# Altium footprint library QSOP-16.PcbLib: 1 footprints
Each footprint in its own frame and in the unit in brackets; x right, y up, seen from the top. Pads: shape width x height; smd on the part's side, far side on the other; paste and mask are expansions set on the pad; w line width, h text height; cw(c..) or ccw(c..) is an arc to the next point about the centre after c.
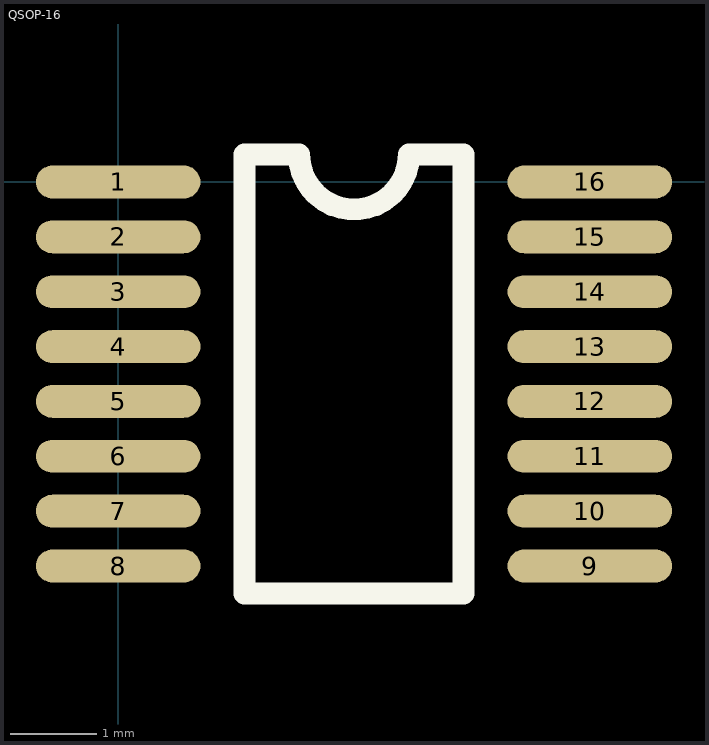
[diagram p0: the footprint, top view; thin cyan lines are the x and y axes]

## QSOP-16 [mil]
height 70
pads (16):
  oval 75x15 smd: 1(0,0) 2(0,-25) 3(0,-50) 4(0,-75) 5(0,-100) 6(0,-125) 7(0,-150) 8(0,-175) 9(215,-175) 10(215,-150) 11(215,-125) 12(215,-100) 13(215,-75) 14(215,-50) 15(215,-25) 16(215,0)
TopOverlay:
  lines w10: 57.5,-187.5 157.5,-187.5 157.5,12.5 132.5,12.5 cw(c107.5,12.5) 82.5,12.5 57.5,12.5 57.5,-187.5
3D body: height 119.74, standoff -1.56, extent -10.97,-183.05 226.04,9.47